# EAGLE library part DS1302 (library MCE_CircuitosIntegrados)
DS1302 Trickle-Charge Timekeeping Chip, https://www.analog.com/media/en/technical-documentation/data-sheets/ds1302.pdf
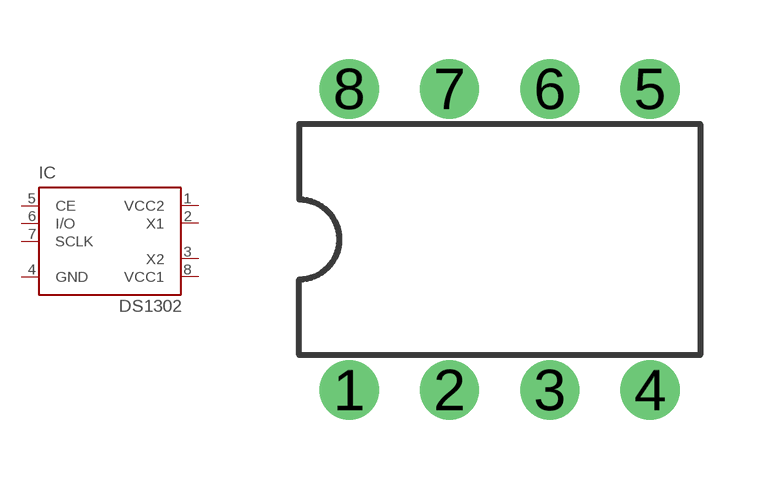
[diagram p13: symbol with the pads of DIL08; footprint DIL08]

Designator prefix IC

## DS1302  [DIL08]
1  VCC2  pwr
2  X1
3  X2
4  GND  pwr
5  CE  in
6  I/O
7  SCLK  in
8  VCC1  pwr

## Footprint DIL08 (pad centres in mm)
Dual In Line Package
drill 0.813 pad 1.5: 1 -3.81,-3.81; 2 -1.27,-3.81; 3 1.27,-3.81; 4 3.81,-3.81; 5 3.81,3.81; 6 1.27,3.81; 7 -1.27,3.81; 8 -3.81,3.81